# Altium footprint library PCB - LEADED - SOIC - TI SOIC-8 D0008A.PcbLib: 1 footprints
Each footprint in its own frame and in the unit in brackets; x right, y up, seen from the top. Pads: shape width x height; smd on the part's side, far side on the other; paste and mask are expansions set on the pad; w line width, h text height; cw(c..) or ccw(c..) is an arc to the next point about the centre after c.
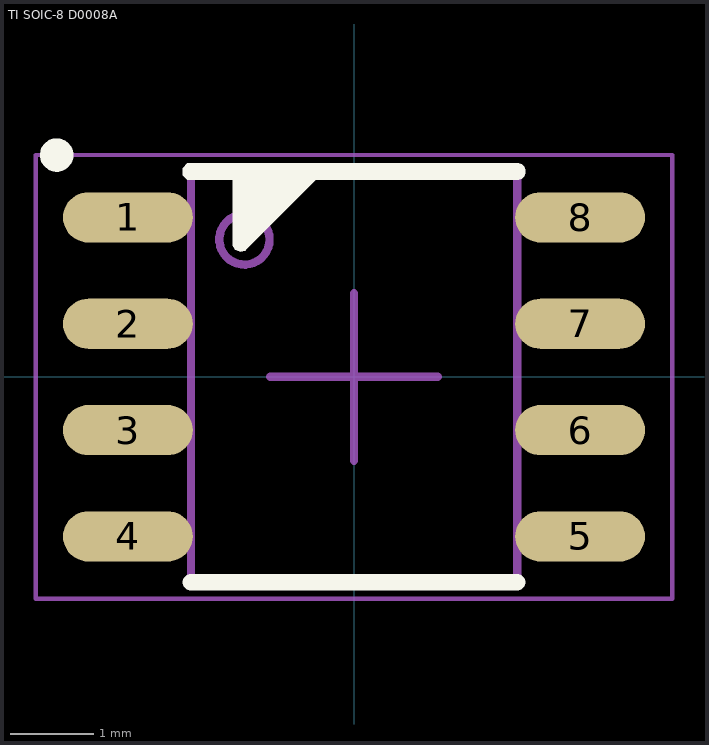
[diagram p0: the footprint, top view; thin cyan lines are the x and y axes]

## TI SOIC-8 D0008A [mm] "Package SOIC-8, 8-Leades, 4.90 x 3.89 mm Body , Pitch 1.27 mm"
height 1.75
pads (8):
  oval 1.55x0.6 smd: 1(-2.7,1.905) 2(-2.7,0.635) 3(-2.7,-0.635) 4(-2.7,-1.905) 5(2.7,-1.905) 6(2.7,-0.635) 7(2.7,0.635) 8(2.7,1.905)
Top Overlay:
  circle w0.2: c-3.55,2.65 r0.1
  region: -1.947,2.352 -1.45,2.352 -1.45,1.6 -1.45,1.57 -1.417,1.519 -1.36,1.496 -1.301,1.507 -1.279,1.529 -0.456,2.352 1.947,2.352 1.967,2.352 2.004,2.367 2.033,2.396 2.048,2.432 2.048,2.452 2.048,2.472 2.033,2.509 2.004,2.538 1.967,2.553 1.947,2.553 -1.947,2.553 -1.989,2.553 -2.047,2.494 -2.047,2.411 -1.989,2.352
  lines w0.2: -1.947,-2.452 1.947,-2.452 ; -1.947,2.452 1.947,2.452 ; -1.35,2.45 -1.35,1.6 -0.5,2.45
Mechanical 13:
  circle w0.1: c-1.309,1.641 r0.3
  lines w0.1: -1.947,-2.452 -1.947,2.452 1.947,2.452 1.947,-2.452 -1.947,-2.452
Mechanical 15:
  lines w0.05: -3.8,-2.65 -3.8,2.65 3.8,2.65 3.8,-2.65 -3.8,-2.65
Mechanical 2 (Mech9):
  lines w0.1: -1,0 0,0 ; 0,-1 0,0 ; 0,1 0,0 ; 1,0 0,0
3D body "TI - SOIC-8 - D008A v3.STEP": height 1.75, standoff 0, extent -3,-2.452 3,2.452